# Altium footprint library 2021-04-22_13-53-57.PcbLib: 14 footprints
Each footprint in its own frame and in the unit in brackets; x right, y up, seen from the top. Pads: shape width x height; smd on the part's side, far side on the other; paste and mask are expansions set on the pad; w line width, h text height; cw(c..) or ccw(c..) is an arc to the next point about the centre after c.
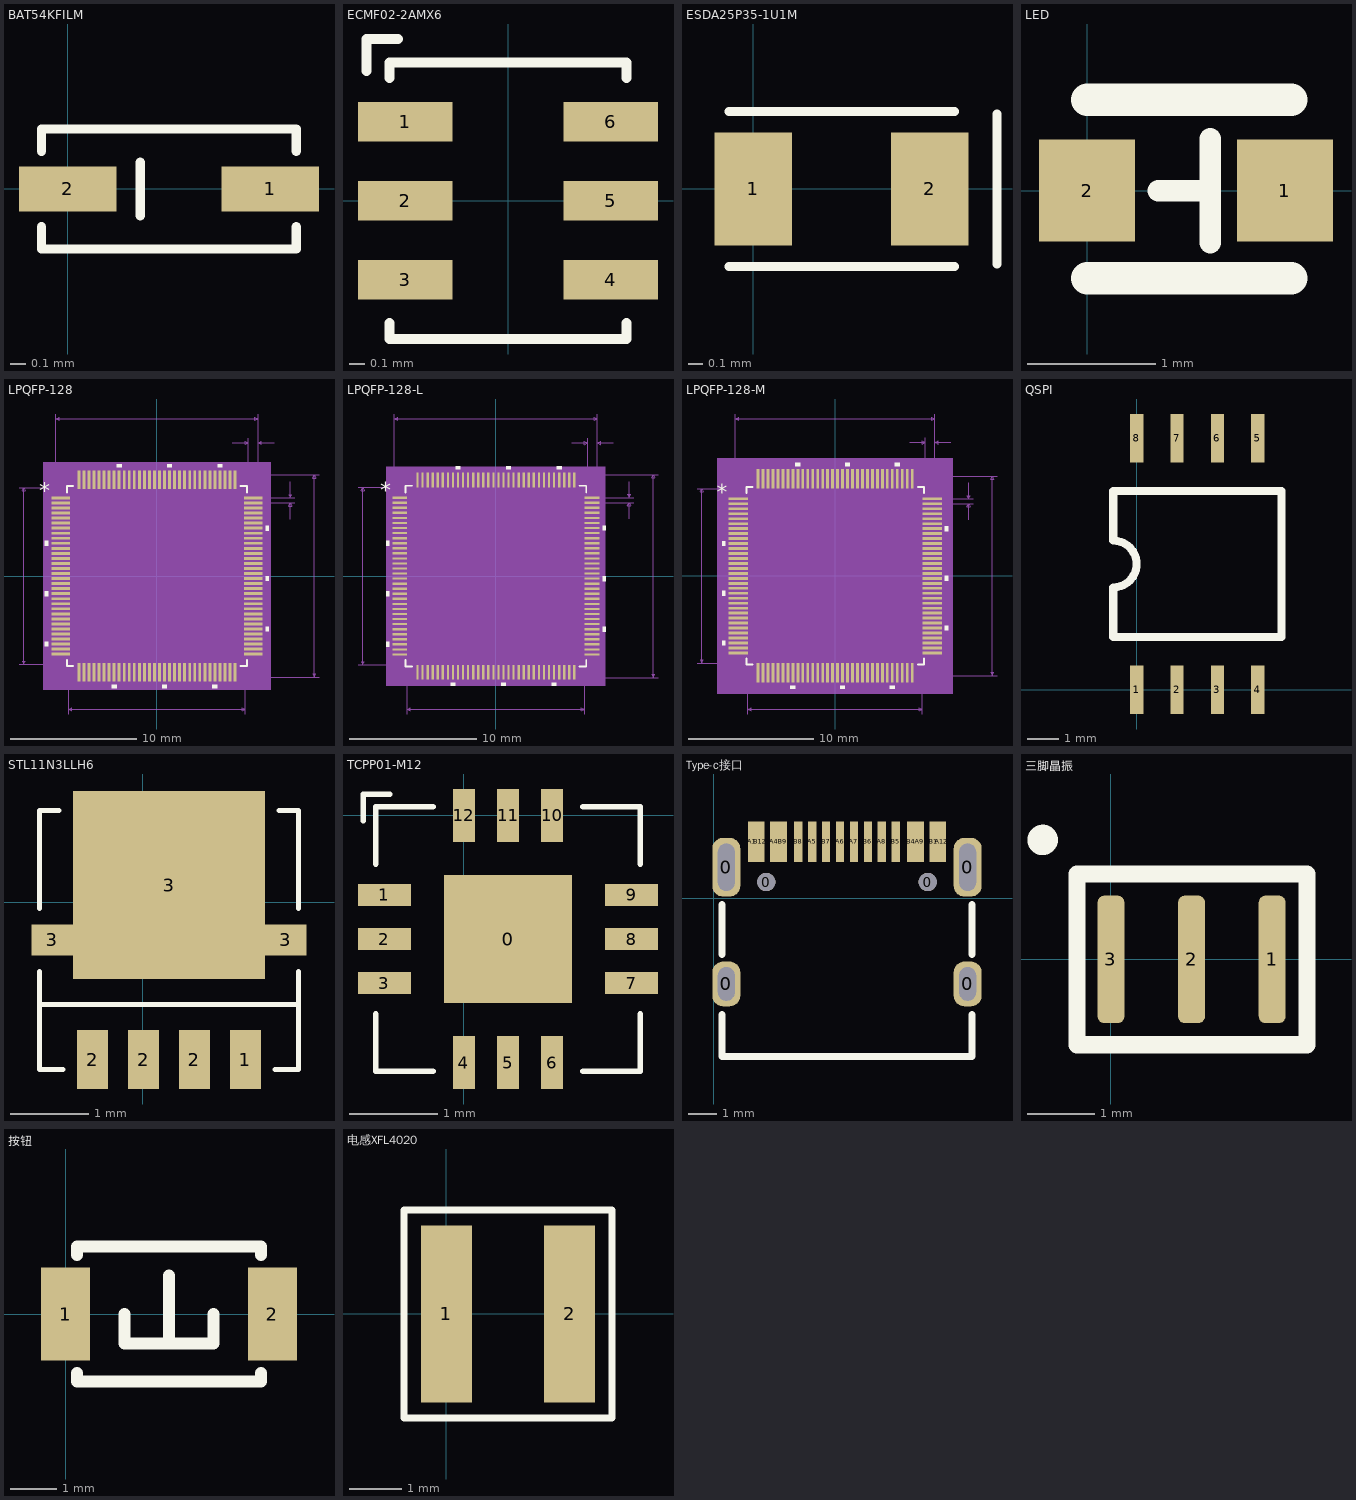
[diagram p0: the footprints below, top view; thin cyan lines are the x and y axes]

## BAT54KFILM [mm]
pads (2):
  rect 0.65x0.3 smd: 1(1.35,0) 2(0,0)
Top Overlay:
  lines w0.063: -0.175,-0.25 -0.175,-0.4 1.525,-0.4 1.525,-0.25 ; -0.175,0.25 -0.175,0.4 1.525,0.4 1.525,0.25 ; 0.483,-0.178 0.483,0.178

## ECMF02-2AMX6 [mm]
pads (6):
  rect 0.6x0.25 smd: 1(-0.65,0.5) 2(-0.65,0) 3(-0.65,-0.5) 4(0.65,-0.5) 5(0.65,0) 6(0.65,0.5)
Top Overlay:
  lines w0.063: -0.897,0.822 -0.897,1.022 -0.697,1.022 ; -0.75,-0.775 -0.75,-0.875 0.75,-0.875 0.75,-0.775 ; -0.75,0.775 -0.75,0.875 0.75,0.875 0.75,0.775

## ESDA25P35-1U1M [mm]
pads (2):
  rect 0.55x0.8 smd: 1(0,0) 2(1.25,0)
Top Overlay:
  lines w0.063: -0.175,-0.551 1.425,-0.551 ; -0.175,0.551 1.425,0.551 ; 1.727,-0.533 1.727,0.533

## LED [mm]
pads (2):
  rect 0.75x0.8 smd: 1(1.55,0) 2(0,0)
Top Overlay:
  lines w0.17: 0.559,0 0.965,0 ; 0.965,-0.406 0.965,0.406
  lines w0.254: 0,-0.686 1.6,-0.686 ; 0,0.711 1.6,0.711

## LPQFP-128 [mil]
pads (128):
  rect 58x9 smd paste+0 mask+0: 1(-300,243.35) 2(-300,227.65) 3(-300,211.95) 4(-300,196.25) 5(-300,180.55) 6(-300,164.85) 7(-300,149.15) 8(-300,133.45) 9(-300,117.75) 10(-300,102.05) 11(-300,86.35) 12(-300,70.65) 13(-300,54.95) 14(-300,39.25) 15(-300,23.55) 16(-300,7.85) 17(-300,-7.85) 18(-300,-23.55) 19(-300,-39.25) 20(-300,-54.95) 21(-300,-70.65) 22(-300,-86.35) 23(-300,-102.05) 24(-300,-117.75) 25(-300,-133.45) 26(-300,-149.15) 27(-300,-164.85) 28(-300,-180.55) 29(-300,-196.25) 30(-300,-211.95) 31(-300,-227.65) 32(-300,-243.35) 65(300,-243.35) 66(300,-227.65) 67(300,-211.95) 68(300,-196.25) 69(300,-180.55) 70(300,-164.85) 71(300,-149.15) 72(300,-133.45) 73(300,-117.75) 74(300,-102.05) 75(300,-86.35) 76(300,-70.65) 77(300,-54.95) 78(300,-39.25) 79(300,-23.55) 80(300,-7.85) 81(300,7.85) 82(300,23.55) 83(300,39.25) 84(300,54.95) 85(300,70.65) 86(300,86.35) 87(300,102.05) 88(300,117.75) 89(300,133.45) 90(300,149.15) 91(300,164.85) 92(300,180.55) 93(300,196.25) 94(300,211.95) 95(300,227.65) 96(300,243.35)
  rect 9x58 smd paste+0 mask+0: 33(-243.35,-300) 34(-227.65,-300) 35(-211.95,-300) 36(-196.25,-300) 37(-180.55,-300) 38(-164.85,-300) 39(-149.15,-300) 40(-133.45,-300) 41(-117.75,-300) 42(-102.05,-300) 43(-86.35,-300) 44(-70.65,-300) 45(-54.95,-300) 46(-39.25,-300) 47(-23.55,-300) 48(-7.85,-300) 49(7.85,-300) 50(23.55,-300) 51(39.25,-300) 52(54.95,-300) 53(70.65,-300) 54(86.35,-300) 55(102.05,-300) 56(117.75,-300) 57(133.45,-300) 58(149.15,-300) 59(164.85,-300) 60(180.55,-300) 61(196.25,-300) 62(211.95,-300) 63(227.65,-300) 64(243.35,-300) 97(243.35,300) 98(227.65,300) 99(211.95,300) 100(196.25,300) 101(180.55,300) 102(164.85,300) 103(149.15,300) 104(133.45,300) 105(117.75,300) 106(102.05,300) 107(86.35,300) 108(70.65,300) 109(54.95,300) 110(39.25,300) 111(23.55,300) 112(7.85,300) 113(-7.85,300) 114(-23.55,300) 115(-39.25,300) 116(-54.95,300) 117(-70.65,300) 118(-86.35,300) 119(-102.05,300) 120(-117.75,300) 121(-133.45,300) 122(-149.15,300) 123(-164.85,300) 124(-180.55,300) 125(-196.25,300) 126(-211.95,300) 127(-227.65,300) 128(-243.35,300)
Top Overlay:
  region: -110.25,339 -125.25,339 -125.25,349 -110.25,349
  region: 46.75,339 31.75,339 31.75,349 46.75,349
  region: 203.75,339 188.75,339 188.75,349 203.75,349
  region: 339,156.65 349,156.65 349,141.65 339,141.65
  region: 339,-0.35 349,-0.35 349,-15.35 339,-15.35
  region: 339,-157.35 349,-157.35 349,-172.35 339,-172.35
  region: 188.05,-339 173.05,-339 173.05,-349 188.05,-349
  region: 31.05,-339 16.05,-339 16.05,-349 31.05,-349
  region: -125.95,-339 -140.95,-339 -140.95,-349 -125.95,-349
  region: -339,-204.45 -349,-204.45 -349,-219.45 -339,-219.45
  region: -339,-47.45 -349,-47.45 -349,-62.45 -339,-62.45
  region: -339,109.55 -349,109.55 -349,94.55 -339,94.55
  lines w6: -280.5,-260.95 -280.5,-280.5 -260.95,-280.5 ; -280.5,260.95 -280.5,280.5 -260.95,280.5 ; 260.95,-280.5 280.5,-280.5 280.5,-260.95 ; 260.95,280.5 280.5,280.5 280.5,260.95
  text "*" at -366.5,241.2 h50
Mechanical 5:
  region: 354,-354 -354,-354 -354,354 354,354
Mechanical 7:
  lines w1: -430,-275.5 -243.35,-275.5 ; -430,275.5 -243.35,275.5 ; -315,243.35 -315,505 ; -275.5,-430 -275.5,-243.35 ; 235,415 285,415 ; 243.35,-315 505,-315 ; 243.35,315 505,315 ; 275.5,-430 275.5,-243.35 ; 285,243.35 285,430 ; 300,227.65 430,227.65 ; 300,243.35 430,243.35 ; 315,430 315,243.35 315,505 ; 365,415 315,415 ; 415,177.65 415,227.65 ; 415,293.35 415,243.35 ; -415,-275.5 -410,-265.5 -420,-265.5 -415,-275.5 ; -415,-275.5 -415,275.5 ; -415,275.5 -410,265.5 -420,265.5 -415,275.5 ; -315,490 -305,485 -305,495 -315,490 ; -315,490 315,490 ; -275.5,-415 -265.5,-420 -265.5,-410 -275.5,-415 ; -275.5,-415 275.5,-415 ; 275.5,-415 265.5,-420 265.5,-410 275.5,-415 ; 285,415 275,410 275,420 285,415 ; 315,415 325,410 325,420 315,415 ; 315,490 305,485 305,495 315,490 ; 415,227.65 420,217.65 410,217.65 415,227.65 ; 415,243.35 420,253.35 410,253.35 415,243.35 ; 490,-315 495,-305 485,-305 490,-315 ; 490,-315 490,315 ; 490,315 495,305 485,305 490,315
  text "0.63in/16.002mm" at 510,-12.5 h25
  text "0.551in/13.995mm" at -635,-12.5 h25
  text "0.551in/13.995mm" at -100,-460 h25
  text "0.63in/16.002mm" at -93.75,510 h25
  text "0.03in/0.762mm" at 212.5,435 h25
  text "0.016in/0.399mm" at 435,223 h25
  text "Alt 2 Padstyle: OX90Y60D30P" at -337.5,-865 h50
  text "Alt 1 Padstyle: OX60Y90D30P" at -337.5,-805 h50
  text "Default Vert Padstyle: RX9Y58D0T" at -400,-625 h50
  text "Default Horiz Padstyle: RX9Y58D0T" at -412.5,-565 h50
Mechanical 13:
  drawing of 517 lines, arcs and shapes, not listed
  text "*" at -273,226.2 h50
Mechanical 15:
  region: -257.85,-285.5 -285.5,-285.5 -285.5,-257.85 -339,-257.85 -339,257.85 -285.5,257.85 -285.5,285.5 -257.85,285.5 -257.85,339 257.85,339 257.85,285.5 285.5,285.5 285.5,257.85 339,257.85 339,-257.85 285.5,-257.85 285.5,-285.5 257.85,-285.5 257.85,-339 -257.85,-339
  lines w6: -339,-257.85 -339,257.85 -285.5,257.85 -285.5,285.5 -257.85,285.5 -257.85,339 257.85,339 257.85,285.5 285.5,285.5 285.5,257.85 339,257.85 339,-257.85 285.5,-257.85 285.5,-285.5 257.85,-285.5 257.85,-339 -257.85,-339 -257.85,-285.5 -285.5,-285.5 -285.5,-257.85 -339,-257.85
3D body: height 10, standoff 0, extent 0,0 10,10

## LPQFP-128-L [mil]
pads (128):
  rect 45.5x7 smd paste+0 mask+0: 1(-298.25,243.35) 2(-298.25,227.65) 3(-298.25,211.95) 4(-298.25,196.25) 5(-298.25,180.55) 6(-298.25,164.85) 7(-298.25,149.15) 8(-298.25,133.45) 9(-298.25,117.75) 10(-298.25,102.05) 11(-298.25,86.35) 12(-298.25,70.65) 13(-298.25,54.95) 14(-298.25,39.25) 15(-298.25,23.55) 16(-298.25,7.85) 17(-298.25,-7.85) 18(-298.25,-23.55) 19(-298.25,-39.25) 20(-298.25,-54.95) 21(-298.25,-70.65) 22(-298.25,-86.35) 23(-298.25,-102.05) 24(-298.25,-117.75) 25(-298.25,-133.45) 26(-298.25,-149.15) 27(-298.25,-164.85) 28(-298.25,-180.55) 29(-298.25,-196.25) 30(-298.25,-211.95) 31(-298.25,-227.65) 32(-298.25,-243.35) 65(298.25,-243.35) 66(298.25,-227.65) 67(298.25,-211.95) 68(298.25,-196.25) 69(298.25,-180.55) 70(298.25,-164.85) 71(298.25,-149.15) 72(298.25,-133.45) 73(298.25,-117.75) 74(298.25,-102.05) 75(298.25,-86.35) 76(298.25,-70.65) 77(298.25,-54.95) 78(298.25,-39.25) 79(298.25,-23.55) 80(298.25,-7.85) 81(298.25,7.85) 82(298.25,23.55) 83(298.25,39.25) 84(298.25,54.95) 85(298.25,70.65) 86(298.25,86.35) 87(298.25,102.05) 88(298.25,117.75) 89(298.25,133.45) 90(298.25,149.15) 91(298.25,164.85) 92(298.25,180.55) 93(298.25,196.25) 94(298.25,211.95) 95(298.25,227.65) 96(298.25,243.35)
  rect 7x45.5 smd paste+0 mask+0: 33(-243.35,-298.25) 34(-227.65,-298.25) 35(-211.95,-298.25) 36(-196.25,-298.25) 37(-180.55,-298.25) 38(-164.85,-298.25) 39(-149.15,-298.25) 40(-133.45,-298.25) 41(-117.75,-298.25) 42(-102.05,-298.25) 43(-86.35,-298.25) 44(-70.65,-298.25) 45(-54.95,-298.25) 46(-39.25,-298.25) 47(-23.55,-298.25) 48(-7.85,-298.25) 49(7.85,-298.25) 50(23.55,-298.25) 51(39.25,-298.25) 52(54.95,-298.25) 53(70.65,-298.25) 54(86.35,-298.25) 55(102.05,-298.25) 56(117.75,-298.25) 57(133.45,-298.25) 58(149.15,-298.25) 59(164.85,-298.25) 60(180.55,-298.25) 61(196.25,-298.25) 62(211.95,-298.25) 63(227.65,-298.25) 64(243.35,-298.25) 97(243.35,298.25) 98(227.65,298.25) 99(211.95,298.25) 100(196.25,298.25) 101(180.55,298.25) 102(164.85,298.25) 103(149.15,298.25) 104(133.45,298.25) 105(117.75,298.25) 106(102.05,298.25) 107(86.35,298.25) 108(70.65,298.25) 109(54.95,298.25) 110(39.25,298.25) 111(23.55,298.25) 112(7.85,298.25) 113(-7.85,298.25) 114(-23.55,298.25) 115(-39.25,298.25) 116(-54.95,298.25) 117(-70.65,298.25) 118(-86.35,298.25) 119(-102.05,298.25) 120(-117.75,298.25) 121(-133.45,298.25) 122(-149.15,298.25) 123(-164.85,298.25) 124(-180.55,298.25) 125(-196.25,298.25) 126(-211.95,298.25) 127(-227.65,298.25) 128(-243.35,298.25)
Top Overlay:
  region: -110.25,331 -125.25,331 -125.25,341 -110.25,341
  region: 46.75,331 31.75,331 31.75,341 46.75,341
  region: 203.75,331 188.75,331 188.75,341 203.75,341
  region: 331,156.65 341,156.65 341,141.65 331,141.65
  region: 331,-0.35 341,-0.35 341,-15.35 331,-15.35
  region: 331,-157.35 341,-157.35 341,-172.35 331,-172.35
  region: 188.05,-331 173.05,-331 173.05,-341 188.05,-341
  region: 31.05,-331 16.05,-331 16.05,-341 31.05,-341
  region: -125.95,-331 -140.95,-331 -140.95,-341 -125.95,-341
  region: -331,-204.45 -341,-204.45 -341,-219.45 -331,-219.45
  region: -331,-47.45 -341,-47.45 -341,-62.45 -331,-62.45
  region: -331,109.55 -341,109.55 -341,94.55 -331,94.55
  lines w6: -280.5,-259.95 -280.5,-280.5 -259.95,-280.5 ; -280.5,259.95 -280.5,280.5 -259.95,280.5 ; 259.95,-280.5 280.5,-280.5 280.5,-259.95 ; 259.95,280.5 280.5,280.5 280.5,259.95
  text "*" at -358.5,241.2 h50
Mechanical 5:
  region: 340,-340 -340,-340 -340,340 340,340
Mechanical 7:
  lines w1: -428.25,-275.5 -243.35,-275.5 ; -428.25,275.5 -243.35,275.5 ; -315,243.35 -315,503.25 ; -275.5,-428.25 -275.5,-243.35 ; 235,413.25 285,413.25 ; 243.35,-315 503.25,-315 ; 243.35,315 503.25,315 ; 275.5,-428.25 275.5,-243.35 ; 285,243.35 285,428.25 ; 298.25,227.65 428.25,227.65 ; 298.25,243.35 428.25,243.35 ; 315,428.25 315,243.35 315,503.25 ; 365,413.25 315,413.25 ; 413.25,177.65 413.25,227.65 ; 413.25,293.35 413.25,243.35 ; -413.25,-275.5 -408.25,-265.5 -418.25,-265.5 -413.25,-275.5 ; -413.25,-275.5 -413.25,275.5 ; -413.25,275.5 -408.25,265.5 -418.25,265.5 -413.25,275.5 ; -315,488.25 -305,483.25 -305,493.25 -315,488.25 ; -315,488.25 315,488.25 ; -275.5,-413.25 -265.5,-418.25 -265.5,-408.25 -275.5,-413.25 ; -275.5,-413.25 275.5,-413.25 ; 275.5,-413.25 265.5,-418.25 265.5,-408.25 275.5,-413.25 ; 285,413.25 275,408.25 275,418.25 285,413.25 ; 315,413.25 325,408.25 325,418.25 315,413.25 ; 315,488.25 305,483.25 305,493.25 315,488.25 ; 413.25,227.65 418.25,217.65 408.25,217.65 413.25,227.65 ; 413.25,243.35 418.25,253.35 408.25,253.35 413.25,243.35 ; 488.25,-315 493.25,-305 483.25,-305 488.25,-315 ; 488.25,-315 488.25,315 ; 488.25,315 493.25,305 483.25,305 488.25,315
  text "0.63in/16.002mm" at 508.25,-12.5 h25
  text "0.551in/13.995mm" at -633.25,-12.5 h25
  text "0.551in/13.995mm" at -100,-458.25 h25
  text "0.63in/16.002mm" at -93.75,508.25 h25
  text "0.03in/0.762mm" at 212.5,433.25 h25
  text "0.016in/0.399mm" at 433.25,223 h25
  text "Alt 2 Padstyle: OX90Y60D30P" at -337.5,-863.25 h50
  text "Alt 1 Padstyle: OX60Y90D30P" at -337.5,-803.25 h50
  text "Default Vert Padstyle: RX7Y45p5D0T" at -425,-623.25 h50
  text "Default Horiz Padstyle: RX7Y45p5D0T" at -437.5,-563.25 h50
Mechanical 13:
  drawing of 517 lines, arcs and shapes, not listed
  text "*" at -273,226.2 h50
Mechanical 15:
  region: -250.85,-279.5 -279.5,-279.5 -279.5,-250.85 -325,-250.85 -325,250.85 -279.5,250.85 -279.5,279.5 -250.85,279.5 -250.85,325 250.85,325 250.85,279.5 279.5,279.5 279.5,250.85 325,250.85 325,-250.85 279.5,-250.85 279.5,-279.5 250.85,-279.5 250.85,-325 -250.85,-325
  lines w6: -325,-250.85 -325,250.85 -279.5,250.85 -279.5,279.5 -250.85,279.5 -250.85,325 250.85,325 250.85,279.5 279.5,279.5 279.5,250.85 325,250.85 325,-250.85 279.5,-250.85 279.5,-279.5 250.85,-279.5 250.85,-325 -250.85,-325 -250.85,-279.5 -279.5,-279.5 -279.5,-250.85 -325,-250.85
3D body: height 10, standoff 0, extent 0,0 10,10

## LPQFP-128-M [mil]
pads (128):
  rect 61.5x9 smd paste+0 mask+0: 1(-306.25,243.35) 2(-306.25,227.65) 3(-306.25,211.95) 4(-306.25,196.25) 5(-306.25,180.55) 6(-306.25,164.85) 7(-306.25,149.15) 8(-306.25,133.45) 9(-306.25,117.75) 10(-306.25,102.05) 11(-306.25,86.35) 12(-306.25,70.65) 13(-306.25,54.95) 14(-306.25,39.25) 15(-306.25,23.55) 16(-306.25,7.85) 17(-306.25,-7.85) 18(-306.25,-23.55) 19(-306.25,-39.25) 20(-306.25,-54.95) 21(-306.25,-70.65) 22(-306.25,-86.35) 23(-306.25,-102.05) 24(-306.25,-117.75) 25(-306.25,-133.45) 26(-306.25,-149.15) 27(-306.25,-164.85) 28(-306.25,-180.55) 29(-306.25,-196.25) 30(-306.25,-211.95) 31(-306.25,-227.65) 32(-306.25,-243.35) 65(306.25,-243.35) 66(306.25,-227.65) 67(306.25,-211.95) 68(306.25,-196.25) 69(306.25,-180.55) 70(306.25,-164.85) 71(306.25,-149.15) 72(306.25,-133.45) 73(306.25,-117.75) 74(306.25,-102.05) 75(306.25,-86.35) 76(306.25,-70.65) 77(306.25,-54.95) 78(306.25,-39.25) 79(306.25,-23.55) 80(306.25,-7.85) 81(306.25,7.85) 82(306.25,23.55) 83(306.25,39.25) 84(306.25,54.95) 85(306.25,70.65) 86(306.25,86.35) 87(306.25,102.05) 88(306.25,117.75) 89(306.25,133.45) 90(306.25,149.15) 91(306.25,164.85) 92(306.25,180.55) 93(306.25,196.25) 94(306.25,211.95) 95(306.25,227.65) 96(306.25,243.35)
  rect 9x61.5 smd paste+0 mask+0: 33(-243.35,-306.25) 34(-227.65,-306.25) 35(-211.95,-306.25) 36(-196.25,-306.25) 37(-180.55,-306.25) 38(-164.85,-306.25) 39(-149.15,-306.25) 40(-133.45,-306.25) 41(-117.75,-306.25) 42(-102.05,-306.25) 43(-86.35,-306.25) 44(-70.65,-306.25) 45(-54.95,-306.25) 46(-39.25,-306.25) 47(-23.55,-306.25) 48(-7.85,-306.25) 49(7.85,-306.25) 50(23.55,-306.25) 51(39.25,-306.25) 52(54.95,-306.25) 53(70.65,-306.25) 54(86.35,-306.25) 55(102.05,-306.25) 56(117.75,-306.25) 57(133.45,-306.25) 58(149.15,-306.25) 59(164.85,-306.25) 60(180.55,-306.25) 61(196.25,-306.25) 62(211.95,-306.25) 63(227.65,-306.25) 64(243.35,-306.25) 97(243.35,306.25) 98(227.65,306.25) 99(211.95,306.25) 100(196.25,306.25) 101(180.55,306.25) 102(164.85,306.25) 103(149.15,306.25) 104(133.45,306.25) 105(117.75,306.25) 106(102.05,306.25) 107(86.35,306.25) 108(70.65,306.25) 109(54.95,306.25) 110(39.25,306.25) 111(23.55,306.25) 112(7.85,306.25) 113(-7.85,306.25) 114(-23.55,306.25) 115(-39.25,306.25) 116(-54.95,306.25) 117(-70.65,306.25) 118(-86.35,306.25) 119(-102.05,306.25) 120(-117.75,306.25) 121(-133.45,306.25) 122(-149.15,306.25) 123(-164.85,306.25) 124(-180.55,306.25) 125(-196.25,306.25) 126(-211.95,306.25) 127(-227.65,306.25) 128(-243.35,306.25)
Top Overlay:
  region: -110.25,347 -125.25,347 -125.25,357 -110.25,357
  region: 46.75,347 31.75,347 31.75,357 46.75,357
  region: 203.75,347 188.75,347 188.75,357 203.75,357
  region: 347,156.65 357,156.65 357,141.65 347,141.65
  region: 347,-0.35 357,-0.35 357,-15.35 347,-15.35
  region: 347,-157.35 357,-157.35 357,-172.35 347,-172.35
  region: 188.05,-347 173.05,-347 173.05,-357 188.05,-357
  region: 31.05,-347 16.05,-347 16.05,-357 31.05,-357
  region: -125.95,-347 -140.95,-347 -140.95,-357 -125.95,-357
  region: -347,-204.45 -357,-204.45 -357,-219.45 -347,-219.45
  region: -347,-47.45 -357,-47.45 -357,-62.45 -347,-62.45
  region: -347,109.55 -357,109.55 -357,94.55 -347,94.55
  lines w6: -280.5,-260.95 -280.5,-280.5 -260.95,-280.5 ; -280.5,260.95 -280.5,280.5 -260.95,280.5 ; 260.95,-280.5 280.5,-280.5 280.5,-260.95 ; 260.95,280.5 280.5,280.5 280.5,260.95
  text "*" at -374.5,241.2 h50
Mechanical 5:
  region: 372,-372 -372,-372 -372,372 372,372
Mechanical 7:
  lines w1: -436.25,-275.5 -243.35,-275.5 ; -436.25,275.5 -243.35,275.5 ; -315,243.35 -315,511.25 ; -275.5,-436.25 -275.5,-243.35 ; 235,421.25 285,421.25 ; 243.35,-315 511.25,-315 ; 243.35,315 511.25,315 ; 275.5,-436.25 275.5,-243.35 ; 285,243.35 285,436.25 ; 306.25,227.65 436.25,227.65 ; 306.25,243.35 436.25,243.35 ; 315,436.25 315,243.35 315,511.25 ; 365,421.25 315,421.25 ; 421.25,177.65 421.25,227.65 ; 421.25,293.35 421.25,243.35 ; -421.25,-275.5 -416.25,-265.5 -426.25,-265.5 -421.25,-275.5 ; -421.25,-275.5 -421.25,275.5 ; -421.25,275.5 -416.25,265.5 -426.25,265.5 -421.25,275.5 ; -315,496.25 -305,491.25 -305,501.25 -315,496.25 ; -315,496.25 315,496.25 ; -275.5,-421.25 -265.5,-426.25 -265.5,-416.25 -275.5,-421.25 ; -275.5,-421.25 275.5,-421.25 ; 275.5,-421.25 265.5,-426.25 265.5,-416.25 275.5,-421.25 ; 285,421.25 275,416.25 275,426.25 285,421.25 ; 315,421.25 325,416.25 325,426.25 315,421.25 ; 315,496.25 305,491.25 305,501.25 315,496.25 ; 421.25,227.65 426.25,217.65 416.25,217.65 421.25,227.65 ; 421.25,243.35 426.25,253.35 416.25,253.35 421.25,243.35 ; 496.25,-315 501.25,-305 491.25,-305 496.25,-315 ; 496.25,-315 496.25,315 ; 496.25,315 501.25,305 491.25,305 496.25,315
  text "0.63in/16.002mm" at 516.25,-12.5 h25
  text "0.551in/13.995mm" at -641.25,-12.5 h25
  text "0.551in/13.995mm" at -100,-466.25 h25
  text "0.63in/16.002mm" at -93.75,516.25 h25
  text "0.03in/0.762mm" at 212.5,441.25 h25
  text "0.016in/0.399mm" at 441.25,223 h25
  text "Alt 2 Padstyle: OX90Y60D30P" at -337.5,-871.25 h50
  text "Alt 1 Padstyle: OX60Y90D30P" at -337.5,-811.25 h50
  text "Default Vert Padstyle: RX9Y61p5D0T" at -425,-631.25 h50
  text "Default Horiz Padstyle: RX9Y61p5D0T" at -437.5,-571.25 h50
Mechanical 13:
  drawing of 517 lines, arcs and shapes, not listed
  text "*" at -273,226.2 h50
Mechanical 15:
  region: -267.85,-295.5 -295.5,-295.5 -295.5,-267.85 -357,-267.85 -357,267.85 -295.5,267.85 -295.5,295.5 -267.85,295.5 -267.85,357 267.85,357 267.85,295.5 295.5,295.5 295.5,267.85 357,267.85 357,-267.85 295.5,-267.85 295.5,-295.5 267.85,-295.5 267.85,-357 -267.85,-357
  lines w6: -357,-267.85 -357,267.85 -295.5,267.85 -295.5,295.5 -267.85,295.5 -267.85,357 267.85,357 267.85,295.5 295.5,295.5 295.5,267.85 357,267.85 357,-267.85 295.5,-267.85 295.5,-295.5 267.85,-295.5 267.85,-357 -267.85,-357 -267.85,-295.5 -295.5,-295.5 -295.5,-267.85 -357,-267.85
3D body: height 10, standoff 0, extent 0,0 10,10

## QSPI [mm]
pads (8):
  rect 0.42x1.524 smd: 1(0,0) 2(1.27,0) 3(2.54,0) 4(3.81,0) 5(3.81,7.9) 6(2.54,7.9) 7(1.27,7.9) 8(0,7.9)
Top Overlay:
  lines w0.254: -0.735,1.651 -0.735,3.215 ccw(c-0.735,3.95) -0.735,4.685 -0.735,6.249 4.545,6.249 4.545,1.651 -0.735,1.651

## STL11N3LLH6 [mm]
pads (7):
  rect 0.4x0.75 smd: 1(1.311,-2.004) 2(-0.639,-2.004) 2(0.011,-2.004) 2(0.661,-2.004)
  rect 0.53x0.4 smd: 3(-1.154,-0.479) 3(1.826,-0.479)
  rect 2.45x2.4 smd: 3(0.336,0.221)
Top Overlay:
  lines w0.063: -1.314,-1.301 1.986,-1.301 ; -1.314,-0.879 -1.314,-2.129 -1.014,-2.129 ; -1.314,-0.079 -1.314,1.171 -1.064,1.171 ; 1.686,-2.129 1.986,-2.129 1.986,-0.879 ; 1.736,1.171 1.986,1.171 1.986,-0.079

## TCPP01-M12 [mm]
pads (13):
  rect 1.45x1.45 smd: 0(0.5,-1.4)
  rect 0.6x0.25 smd: 1(-0.9,-0.9) 2(-0.9,-1.4) 3(-0.9,-1.9) 7(1.9,-1.9) 8(1.9,-1.4) 9(1.9,-0.9)
  rect 0.25x0.6 smd: 4(0,-2.8) 5(0.5,-2.8) 6(1,-2.8) 10(1,0) 11(0.5,0) 12(0,0)
Top Overlay:
  lines w0.063: -1.141,-0.059 -1.141,0.241 -0.841,0.241 ; -1,-2.25 -1,-2.9 -0.35,-2.9 ; -1,-0.55 -1,0.1 -0.35,0.1 ; 1.35,-2.9 2,-2.9 2,-2.25 ; 1.35,0.1 2,0.1 2,-0.55

## Type-c接口 [mm]
pads (22):
  rrect75% 1x1.6 hole 1.2 slot 0.6 at 0 deg: 0(0.454,-3.063) 0(9.094,-3.063)
  rrect75% 1x2.1 hole 1.7 slot 0.6 at 0 deg: 0(0.454,1.117) 0(9.094,1.117)
  round 0.65 hole 0.65: 0(1.884,0.587) 0(7.664,0.587)
  rect 0.3x1.45 smd: A1(1.374,2.032) A4(2.174,2.032) A5(3.524,2.032) A6(4.524,2.032) A7(5.024,2.032) A8(6.024,2.032) A9(7.374,2.032) A12(8.174,2.032) B1(7.874,2.032) B4(7.074,2.032) B5(6.524,2.032) B6(5.524,2.032) B7(4.024,2.032) B8(3.024,2.032) B9(2.474,2.032) B12(1.674,2.032)
Top Overlay:
  lines w0.254: 0.304,-4.163 0.304,-5.663 9.244,-5.663 9.244,-4.163 ; 0.304,-2.013 0.304,-0.213 ; 9.244,-2.013 9.244,-0.213
Mechanical 1:
  lines w0.254: 0.449,-5.663 9.099,-5.663

## 三脚晶振 [mm]
pads (3):
  rrect50% 0.4x1.9 smd: 1(2.4,0) 2(1.2,0) 3(0,0)
Top Overlay:
  circle w0.254: c-1.016,1.778 r0.1
  lines w0.254: -0.508,-1.27 2.921,-1.27 2.921,1.27 -0.508,1.27 -0.508,-1.27

## 按钮 [mm]
pads (2):
  rect 1.05x2 smd: 1(0,0) 2(4.45,0)
Top Overlay:
  lines w0.254: 0.25,-1.266 0.25,-1.45 4.2,-1.45 4.2,-1.266 ; 0.25,1.266 0.25,1.45 4.2,1.45 4.2,1.266 ; 1.27,0 1.27,-0.635 2.225,-0.635 ; 2.225,0.828 2.225,-0.635 ; 3.18,0 3.18,-0.635 2.225,-0.635

## 电感XFL4020 [mm]
pads (2):
  rect 0.98x3.4 smd: 1(0,0) 2(2.37,0)
Top Overlay:
  lines w0.127: -0.815,-2 3.185,-2 3.185,2 -0.815,2 -0.815,-2